# Altium footprint library Pwrlib.PcbLib: 21 footprints (part 1 of 2)
Each footprint in its own frame and in the unit in brackets; x right, y up, seen from the top. Pads: shape width x height; smd on the part's side, far side on the other; paste and mask are expansions set on the pad; w line width, h text height; cw(c..) or ccw(c..) is an arc to the next point about the centre after c.
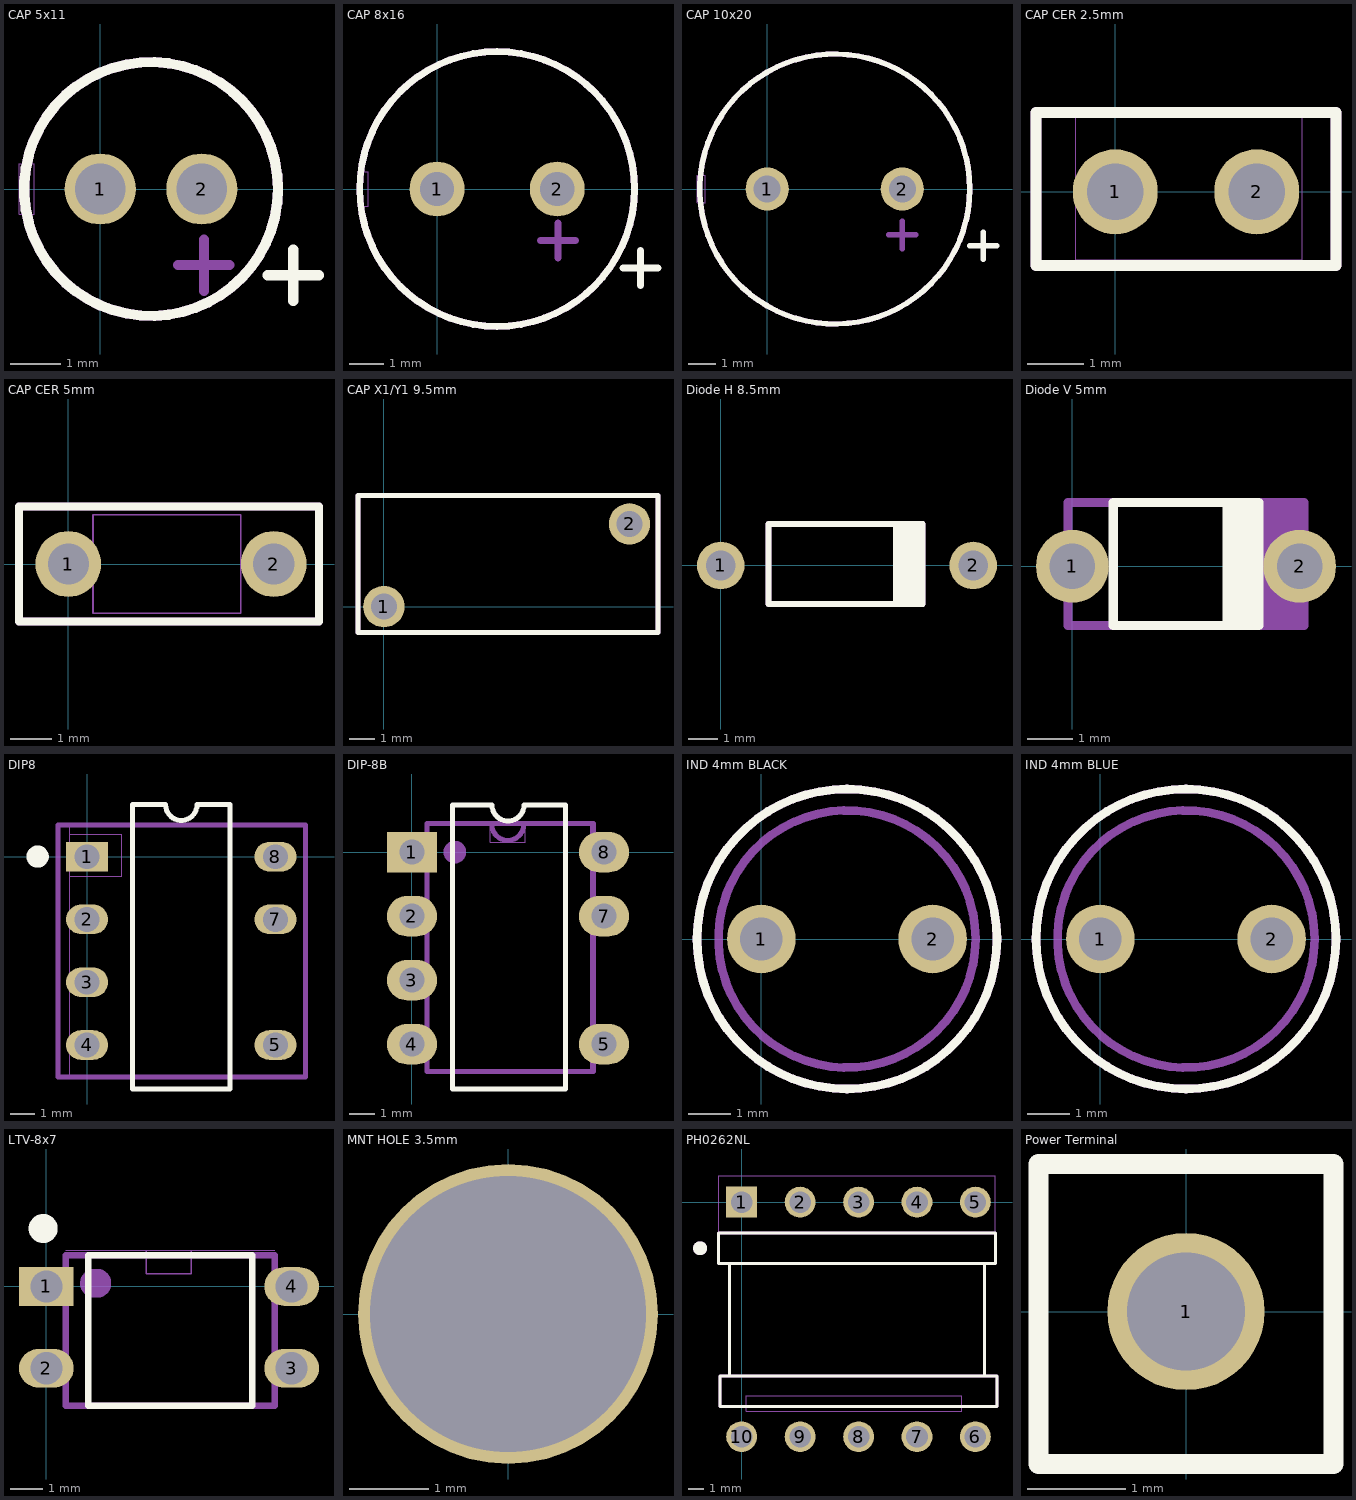
[diagram p0: the footprints below, top view; thin cyan lines are the x and y axes]

## CAP 5x11 [mm]
pads (2):
  round 1.4 hole 1: 1(0,0) 2(2,0)
Top Overlay:
  circle w0.2: c1,0 r2.5
  lines w0.2: 3.292,-1.7 4.308,-1.7 ; 3.8,-2.208 3.8,-1.192
Mechanical 1:
  circle w0: c1,0 r2.5
  circle w0.1: c0,0 r0.25
  circle w0.1: c2,0 r0.25
  lines w0: -1.6,-0.5 -1.3,-0.5 -1.3,0.5 -1.6,0.5 -1.6,-0.5
Assembly Draw:
  circle w0.2: c1,0 r2.5
  lines w0.2: 1.532,-1.5 2.548,-1.5 ; 2.04,-2.008 2.04,-0.992
  text "'.Designator'" at 0.2,-0.7 h1.5
3D body: height 11, standoff 0, extent -1.499,-2.499 3.499,2.499
3D body: height 10.99, standoff 0, extent -1.549,-0.5 -1.4,0.499
3D body: height 0, standoff -2, extent -0.249,-0.249 0.249,0.249
3D body: height 0, standoff -2, extent 1.751,-0.249 2.249,0.249

## CAP 8x16 [mm]
pads (2):
  round 1.6 hole 1: 1(0,0) 2(3.5,0)
Top Overlay:
  circle w0.2: c1.75,0 r4
  lines w0.2: 5.417,-2.3 6.433,-2.3 ; 5.925,-2.808 5.925,-1.792
Mechanical 1:
  circle w0: c3.5,0 r0.3
  circle w0: c0,0 r0.3
  circle w0: c1.75,0 r4
  lines w0: -2.3,-0.5 -2,-0.5 -2,0.5 -2.3,0.5 -2.3,-0.5
Assembly Draw:
  circle w0.2: c1.75,0 r4
  lines w0.2: 3.017,-1.5 4.033,-1.5 ; 3.525,-2.008 3.525,-0.992
  text "'.Designator'" at 0.5,-0.4 h1.5
3D body: height 0, standoff -2, extent 3.201,-0.299 3.799,0.299
3D body: height 0, standoff -2, extent -0.299,-0.299 0.299,0.299
3D body: height 15.99, standoff 0, extent -2.299,-0.499 -2.219,0.499
3D body: height 16, standoff 0, extent -2.249,-3.999 5.749,3.999

## CAP 10x20 [mm]
pads (2):
  round 1.6 hole 1: 1(0,0) 2(5,0)
Top Overlay:
  circle w0.2: c2.5,0 r5
  lines w0.2: 7.492,-2.1 8.508,-2.1 ; 8,-2.608 8,-1.592
Mechanical 1:
  circle w0: c5,0 r0.3
  circle w0: c0,0 r0.3
  circle w0: c2.5,0 r5
  lines w0: -2.6,-0.5 -2.3,-0.5 -2.3,0.5 -2.6,0.5 -2.6,-0.5
Assembly Draw:
  circle w0.2: c2.5,0 r5
  lines w0.2: 4.492,-1.7 5.508,-1.7 ; 5,-2.208 5,-1.192
  text "'.Designator'" at 1.5,-0.5 h1.5
3D body: height 0, standoff -2, extent 4.701,-0.299 5.299,0.299
3D body: height 0, standoff -2, extent -0.299,-0.299 0.299,0.299
3D body: height 19.99, standoff 0, extent -2.599,-0.499 -2.475,0.499
3D body: height 20, standoff 0, extent -2.499,-4.999 7.499,4.999

## CAP CER 2.5mm [mm]
pads (2):
  round 1.5 hole 1: 1(0,0) 2(2.5,0)
Top Overlay:
  lines w0.2: -1.4,-1.3 -1.4,1.4 3.9,1.4 3.9,-1.3 -1.4,-1.3
Mechanical 1:
  circle w0: c0,0 r0.25
  circle w0: c2.5,0 r0.25
  lines w0: -0.7,-1.2 -0.7,1.4 3.3,1.4 3.3,-1.2 -0.7,-1.2
Assembly Draw:
  lines w0.2: -1.4,-1.3 3.9,-1.3 3.9,1.4 -1.4,1.4 -1.4,-1.3
  text "'.Designator'" at -0.175,-0.725 h1.5
3D body: height 5.6, standoff 1.6, extent -0.7,-1.2 3.3,1.4
3D body: height 1.6, standoff 0, extent -0.249,-0.249 0.249,0.249
3D body: height 1.6, standoff 0, extent 2.251,-0.249 2.749,0.249

## CAP CER 5mm [mm]
pads (2):
  round 1.6 hole 1: 1(0,0) 2(5,0)
Top Overlay:
  lines w0.2: -1.2,-1.4 6.1,-1.4 6.1,1.4 -1.2,1.4 -1.2,-1.4
Mechanical 1:
  lines w0.04: 0.6,-1.2 0.6,1.2 4.2,1.2 4.2,-1.2 0.6,-1.2
Assembly Draw:
  lines w0.2: -1.2,-1.4 -1.2,1.4 6.1,1.4 6.1,-1.4 -1.2,-1.4
  text "'.Designator'" at 0.325,-0.825 h1.5
3D body: height 1.85, standoff 1.35, extent -0.2,-0.248 1.55,0.25
3D body: height 3.4, standoff 1.4, extent 1.302,-0.249 1.8,0.25
3D body: height 1.6, standoff -2, extent -0.248,-0.249 0.25,0.25
3D body: height 1.6, standoff -2, extent 4.75,-0.25 5.248,0.249
3D body: height 3.4, standoff 1.4, extent 3.2,-0.25 3.698,0.25
3D body: height 1.85, standoff 1.35, extent 3.45,-0.25 5.2,0.248
3D body: height 6.1, standoff 2.6, extent 0.701,-1.2 4.299,1.199

## CAP X1/Y1 9.5mm [mm]
pads (2):
  round 1.6 hole 1: 1(0,0) 2(9.5,3.2)
Top Overlay:
  lines w0.2: -1,-1 10.6,-1 10.6,4.3 -1,4.3 -1,-1
Mechanical 1:
  circle w0.1: c9.5,3.2 r0.4
  circle w0.1: c0,0 r0.4
Assembly Draw:
  lines w0.2: -1,-1 -1,4.3 10.6,4.3 10.6,-1 -1,-1
  text "'.Designator'" at 3.5,0.7 h1.5
3D body: height 7, standoff -2, extent 9.101,2.801 9.899,3.599
3D body: height 7, standoff -2, extent -0.399,-0.399 0.399,0.399
3D body: height 12.95, standoff 1.95, extent -0.7,-0.25 10.3,3.45

## Diode H 8.5mm [mm]
pads (2):
  round 1.6 hole 1: 1(0,0) 2(8.5,0)
Top Overlay:
  rectangle: 5.8,-1.3 6.8,1.4
  lines w0.2: 1.6,-1.3 6.8,-1.3 6.8,1.4 1.6,1.4 1.6,-1.3
Mechanical 1:
  circle w0.1: c8.5,0 r0.43
  circle w0.1: c0,0 r0.43
Assembly Draw:
  rectangle: 5.8,-1.3 6.8,1.4
  lines w0.2: 1.6,-1.3 1.6,1.4 6.8,1.4 6.8,-1.3 1.6,-1.3
  text "'.Designator'" at 2.175,-0.75 h1.5
3D body: height 1.6, standoff -2, extent 8.071,-0.429 8.93,0.43
3D body: height 1.6, standoff -2, extent -0.429,-0.429 0.429,0.429
3D body: height 1.78, standoff 0.92, extent 0,-0.427 5.2,0.43
3D body: height 1.78, standoff 0.92, extent 3.4,-0.428 8.6,0.428
3D body: height 2.7, standoff 0, extent 5.725,-1.3 6.675,1.389
3D body: height 2.7, standoff 0, extent 1.475,-1.3 5.725,1.389

## Diode V 5mm [mm]
pads (2):
  round 1.6 hole 1: 1(0,0) 2(5,0)
Top Overlay:
  rectangle: 3.3,-1.3 4.1,1.4
  lines w0.2: 0.9,-1.3 4.1,-1.3 4.1,1.4 0.9,1.4 0.9,-1.3
Assembly Draw:
  rectangle: 4.1,-1.3 5.1,1.4
  lines w0.2: -0.1,-1.3 -0.1,1.4 5.1,1.4 5.1,-1.3 -0.1,-1.3
  text "'.Designator'" at 0.275,-0.65 h1.5
3D body: height 8.25, standoff 2.7, extent -0.328,-0.425 5.228,0.433
3D body: height 8, standoff -2, extent -0.429,-0.426 0.429,0.43
3D body: height 3.2, standoff -2, extent 4.571,-0.43 5.429,0.427
3D body: height 5.2, standoff 4.25, extent -1.295,-1.3 1.4,1.389
3D body: height 4.25, standoff 0, extent -1.295,-1.3 1.4,1.389

## DIP8 [mm]
pads (7):
  rect 1.7x1.2 hole 1: 1(0,0)
  oval 1.7x1.2 hole 1: 2(0,-2.54) 3(0,-5.08) 4(0,-7.62) 5(7.62,-7.62) 7(7.62,-2.54) 8(7.62,0)
Top Overlay:
  circle w0.5: c-2,0 r0.2
  lines w0.2: 1.835,-9.4 5.785,-9.4 5.785,2.1 4.445,2.1 cw(c3.81,2.1) 3.175,2.1 1.835,2.1 1.835,-9.4
Mechanical 1:
  lines w0.04: -0.7,-8.91 -0.7,1.275 ; -0.7,-0.8 1.4,-0.8 1.4,0.9 -0.7,0.9
  lines w0.2: -1.175,-8.91 -1.175,1.275 8.825,1.275 8.825,-8.91 -1.175,-8.91
Assembly Draw:
  circle w0.5: c0,0 r0.2
  lines w0.2: -1.175,-8.91 8.825,-8.91 8.825,1.275 -1.175,1.275 -1.175,-8.91
  text "'.Designator'" at 1.8,-4.225 h1.5
3D body: height 4.3, standoff 0, extent -1.174,-8.909 8.824,1.274
3D body: height 1.5, standoff -2, extent -0.099,-7.919 0.1,-7.32
3D body: height 1.5, standoff -2, extent -0.099,-5.379 0.1,-4.78
3D body: height 1.5, standoff -2, extent -0.099,-2.839 0.1,-2.24
3D body: height 1.5, standoff -2, extent -0.099,-0.299 0.1,0.3
3D body: height 1.5, standoff -2, extent 7.521,-7.919 7.72,-7.32
3D body: height 1.5, standoff -2, extent 7.521,-2.839 7.72,-2.24
3D body: height 1.5, standoff -2, extent 7.521,-0.299 7.72,0.3
3D body: height 4.7, standoff 0, extent -1.174,-8.909 -0.701,1.274
3D body: height 4.7, standoff 0, extent 8.325,-8.91 8.824,1.274
3D body: height 1.5, standoff -2, extent 7.521,-5.379 7.72,-4.78
3D body: height 4.31, standoff 0, extent -0.699,-0.799 1.399,0.899
3D body: height 4.31, standoff 0, extent -0.699,-3.339 1.399,-1.641
3D body: height 4.31, standoff 0, extent -0.699,-5.879 1.399,-4.181
3D body: height 4.31, standoff 0, extent -0.699,-8.419 1.399,-6.721
3D body: height 4.31, standoff 0, extent 6.221,-0.899 8.319,0.799
3D body: height 4.31, standoff 0, extent 6.221,-3.439 8.319,-1.741
3D body: height 4.31, standoff 0, extent 6.221,-5.979 8.319,-4.281
3D body: height 4.31, standoff 0, extent 6.221,-8.519 8.319,-6.821

## DIP-8B [mm]
pads (7):
  rect 2x1.6 hole 1: 1(0,0)
  oval 2x1.6 hole 1: 2(0,-2.54) 3(0,-5.08) 4(0,-7.62) 5(7.62,-7.62) 7(7.62,-2.54) 8(7.62,0)
Top Overlay:
  lines w0.2: 1.6,-9.4 1.6,1.87 3.175,1.87 ccw(c3.81,1.87) 4.445,1.87 6.1,1.87 6.1,-9.4 1.6,-9.4
Mechanical 1:
  lines w0: 0.6,-7.92 -0.1,-7.92 ; 0.6,-7.32 -0.1,-7.32 ; -0.1,-7.92 -0.1,-7.32 ; -0.1,-7.92 0.1,-7.92 0.1,-7.32 -0.1,-7.32 ; -0.1,-5.38 0.6,-5.38 -0.1,-5.38 ; -0.1,-5.38 -0.1,-4.78 ; -0.1,-5.38 0.1,-5.38 ; -0.1,-5.38 0.1,-5.38 ; -0.1,-5.38 -0.1,-4.78 ; -0.1,-4.78 0.6,-4.78 -0.1,-4.78 ; -0.1,-4.78 0.1,-4.78 ; -0.1,-4.78 0.1,-4.78 ; -0.1,-2.84 0.6,-2.84 -0.1,-2.84 ; -0.1,-2.84 -0.1,-2.24 ; -0.1,-2.84 0.1,-2.84 ; -0.1,-2.84 0.1,-2.84 ; -0.1,-2.84 -0.1,-2.24 ; -0.1,-2.24 0.6,-2.24 -0.1,-2.24 ; -0.1,-2.24 0.1,-2.24 ; -0.1,-2.24 0.1,-2.24 ; -0.1,-0.3 0.1,-0.3 ; -0.1,-0.3 -0.1,0.3 ; -0.1,-0.3 0.6,-0.3 -0.1,-0.3 ; -0.1,-0.3 0.1,-0.3 ; -0.1,-0.3 -0.1,0.3 ; -0.1,0.3 0.1,0.3 ; -0.1,0.3 0.6,0.3 -0.1,0.3 ; -0.1,0.3 0.1,0.3 ; 0.1,-5.38 0.1,-4.78 ; 0.1,-5.38 0.1,-4.78 ; 0.1,-2.84 0.1,-2.24 ; 0.1,-2.84 0.1,-2.24 ; 0.1,-0.3 0.1,0.3 ; 0.1,-0.3 0.1,0.3 ; 7.52,-7.92 7.52,-7.32 ; 7.52,-7.92 7.72,-7.92 ; 7.52,-7.92 7.72,-7.92 ; 7.52,-7.92 7.52,-7.32 ; 7.52,-7.32 7.72,-7.32 ; 7.52,-7.32 7.72,-7.32 ; 7.52,-2.84 7.52,-2.24 ; 7.52,-2.84 7.72,-2.84 ; 7.52,-2.84 7.72,-2.84 ; 7.52,-2.84 7.52,-2.24 ; 7.52,-2.24 7.72,-2.24 ; 7.52,-2.24 7.72,-2.24 ; 7.52,-0.3 7.52,0.3 ; 7.52,-0.3 7.72,-0.3 ; 7.52,-0.3 7.72,-0.3 ; 7.52,-0.3 7.52,0.3 ; 7.52,0.3 7.72,0.3 ; 7.52,0.3 7.72,0.3 ; 7.72,-7.92 7.02,-7.92 7.72,-7.92 ; 7.72,-7.92 7.72,-7.32 ; 7.72,-7.92 7.72,-7.32 ; 7.72,-7.32 7.02,-7.32 7.72,-7.32 ; 7.72,-2.84 7.02,-2.84 7.72,-2.84 ; 7.72,-2.84 7.72,-2.24 ; 7.72,-2.84 7.72,-2.24 ; 7.72,-2.24 7.02,-2.24 7.72,-2.24 ; 7.72,-0.3 7.02,-0.3 7.72,-0.3 ; 7.72,-0.3 7.72,0.3 ; 7.72,-0.3 7.72,0.3 ; 7.72,0.3 7.02,0.3 7.72,0.3 ; 0.6,-8.7 7.1,-8.7 7.1,1.13 0.6,1.13 0.6,-8.7
  lines w0.04: 3.1,1.13 3.1,0.4 4.5,0.4 4.5,1.13
Assembly Draw:
  circle w0.5: c1.7,0 r0.2
  lines w0.2: 3.165,1.1 ccw(c3.8,1.1) 4.435,1.1 ; 0.6,-8.7 0.6,1.13 7.2,1.13 7.2,-8.7 0.6,-8.7
  text "'.Designator'" at 1.6,-4.725 h1.5
3D body: height 3, standoff 0, extent 0.601,-8.699 7.1,1.13
3D body: height 1.5, standoff -2, extent -0.099,-7.919 0.099,-7.321
3D body: height 3.68, standoff 3, extent 0.601,-8.699 7.099,1.129
3D body: height 1.5, standoff 1.3, extent 0.101,-7.919 0.599,-7.321
3D body: height 1.5, standoff 1.3, extent 0.101,-5.379 0.599,-4.781
3D body: height 1.5, standoff -2, extent -0.099,-5.379 0.099,-4.781
3D body: height 1.5, standoff 1.3, extent 0.101,-2.839 0.599,-2.241
3D body: height 1.5, standoff -2, extent -0.099,-2.839 0.099,-2.241
3D body: height 1.5, standoff 1.3, extent 0.101,-0.299 0.599,0.299
3D body: height 1.5, standoff -2, extent -0.099,-0.299 0.099,0.299
3D body: height 1.5, standoff 1.3, extent 7.021,-7.919 7.519,-7.321
3D body: height 1.5, standoff -2, extent 7.521,-7.919 7.719,-7.321
3D body: height 1.5, standoff 1.3, extent 7.021,-2.839 7.519,-2.241
3D body: height 1.5, standoff -2, extent 7.521,-2.839 7.719,-2.241
3D body: height 1.5, standoff 1.3, extent 7.021,-0.299 7.519,0.299
3D body: height 1.5, standoff -2, extent 7.521,-0.299 7.719,0.299

## IND 4mm BLACK [mm]
pads (2):
  round 1.6 hole 1: 1(0,0) 2(4,0)
Top Overlay:
  circle w0.2: c2,0 r3.5
Mechanical 1:
  circle w0.2: c2,0 r3
  circle w0.1: c0,0 r0.3
  circle w0.1: c4,0 r0.3
Assembly Draw:
  circle w0.2: c2,0 r3.5
  circle w0.2: c2,0 r3.5
  text "'.Designator'" at 0.675,-0.675 h1.5
3D body: height 1, standoff 0, extent -1.499,-3.499 5.499,3.499
3D body: height 5, standoff 1, extent -0.999,-2.999 4.999,2.999
3D body: height 6, standoff 5, extent -1.499,-3.499 5.499,3.499
3D body: height 0, standoff -2, extent -0.299,-0.299 0.299,0.299
3D body: height 0, standoff -2, extent 3.701,-0.299 4.299,0.299

## IND 4mm BLUE [mm]
pads (2):
  round 1.6 hole 1: 1(0,0) 2(4,0)
Top Overlay:
  circle w0.2: c2,0 r3.5
Mechanical 1:
  circle w0.2: c2,0 r3
  circle w0.1: c0,0 r0.3
  circle w0.1: c4,0 r0.3
Assembly Draw:
  circle w0.2: c2,0 r3.5
  circle w0.2: c2,0 r3.5
  text "'.Designator'" at 0.875,-0.775 h1.5
3D body: height 1, standoff 0, extent -1.499,-3.499 5.499,3.499
3D body: height 5, standoff 1, extent -0.999,-2.999 4.999,2.999
3D body: height 6, standoff 5, extent -1.499,-3.499 5.499,3.499
3D body: height 0, standoff -2, extent -0.299,-0.299 0.299,0.299
3D body: height 0, standoff -2, extent 3.701,-0.299 4.299,0.299

## LTV-8x7 [mm]
pads (4):
  rect 1.7x1.2 hole 1: 1(0,0)
  oval 1.7x1.2 hole 1: 2(0,-2.54) 3(7.62,-2.54) 4(7.62,0)
Top Overlay:
  circle w0.5: c-0.1,1.8 r0.2
  lines w0.2: 1.3,-3.71 1.3,0.97 6.4,0.97 6.4,-3.71 1.3,-3.71
Mechanical 1:
  circle w0.5: c1.5,0.1 r0.2
  lines w0: 0.6,1.13 7.1,1.13 ; -0.1,-2.84 0.6,-2.84 -0.1,-2.84 ; -0.1,-2.84 -0.1,-2.24 ; -0.1,-2.84 0.1,-2.84 ; -0.1,-2.84 0.1,-2.84 ; -0.1,-2.84 -0.1,-2.24 ; -0.1,-2.24 0.6,-2.24 -0.1,-2.24 ; -0.1,-2.24 0.1,-2.24 ; -0.1,-2.24 0.1,-2.24 ; -0.1,-0.3 0.6,-0.3 -0.1,-0.3 ; -0.1,-0.3 -0.1,0.3 ; -0.1,-0.3 0.1,-0.3 ; -0.1,-0.3 -0.1,0.3 ; -0.1,-0.3 0.1,-0.3 ; -0.1,0.3 0.6,0.3 -0.1,0.3 ; -0.1,0.3 0.1,0.3 ; -0.1,0.3 0.1,0.3 ; 0.1,-2.84 0.1,-2.24 ; 0.1,-2.84 0.1,-2.24 ; 0.1,-0.3 0.1,0.3 ; 0.1,-0.3 0.1,0.3 ; 7.52,-2.84 7.52,-2.24 ; 7.52,-2.84 7.72,-2.84 ; 7.52,-2.84 7.72,-2.84 ; 7.52,-2.84 7.52,-2.24 ; 7.52,-2.24 7.72,-2.24 ; 7.52,-2.24 7.72,-2.24 ; 7.52,-0.3 7.52,0.3 ; 7.52,-0.3 7.72,-0.3 ; 7.52,-0.3 7.72,-0.3 ; 7.52,-0.3 7.52,0.3 ; 7.52,0.3 7.72,0.3 ; 7.52,0.3 7.72,0.3 ; 7.72,-2.84 7.02,-2.84 7.72,-2.84 ; 7.72,-2.84 7.72,-2.24 ; 7.72,-2.84 7.72,-2.24 ; 7.72,-2.24 7.02,-2.24 7.72,-2.24 ; 7.72,-0.3 7.02,-0.3 7.72,-0.3 ; 7.72,-0.3 7.72,0.3 ; 7.72,-0.3 7.72,0.3 ; 7.72,0.3 7.02,0.3 7.72,0.3
  lines w0.04: 3.1,1.13 3.1,0.4 4.5,0.4 4.5,1.13
Assembly Draw:
  circle w0.5: c1.565,0.1 r0.2
  lines w0.2: 7.065,-3.71 0.6,-3.71 0.6,0.97 7.1,0.97 7.1,-3.71
  text "'.Designator'" at 1.975,-2.125 h1.5
3D body: height 3.68, standoff 0, extent 1.366,-0.099 1.764,0.299
3D body: height 1.5, standoff -2, extent 7.521,-0.299 7.72,0.3
3D body: height 1.5, standoff 1.3, extent 7.021,-0.299 7.52,0.3
3D body: height 1.5, standoff -2, extent 7.521,-2.839 7.72,-2.24
3D body: height 1.5, standoff 1.3, extent 7.021,-2.839 7.52,-2.24
3D body: height 1.5, standoff -2, extent -0.099,-0.299 0.1,0.3
3D body: height 1.5, standoff 1.3, extent 0.101,-0.299 0.6,0.3
3D body: height 1.5, standoff -2, extent -0.099,-2.839 0.1,-2.24
3D body: height 1.5, standoff 1.3, extent 0.101,-2.839 0.6,-2.24
3D body: height 3.68, standoff 3, extent 0.601,-3.7 7.105,1.13
3D body: height 3, standoff 0, extent 0.601,-3.7 7.1,1.13

## MNT HOLE 3.5mm [mm]
pads (1):
  round 3.8 hole 3.5: ""(0,0)

## PH0262NL [mm]
pads (10):
  rect 2x2 hole 1.4: 1(0,0)
  round 2 hole 1.4: 2(3.8,0) 3(7.6,0) 4(11.4,0) 5(15.2,0) 6(15.2,-15.25) 7(11.4,-15.25) 8(7.6,-15.25) 9(3.8,-15.25) 10(0,-15.25)
Top Overlay:
  circle w0.5: c-2.7,-3 r0.2
  lines w0.2: -0.8,-11.2 -0.8,-4 ; 15.8,-11.3 15.8,-4 ; -1.5,-4 -1.5,-2 16.5,-2 16.5,-4 -1.5,-4 ; -1.4,-13.3 16.6,-13.3 16.6,-11.3 -1.4,-11.3 -1.4,-13.3
Mechanical 1:
  circle w0.1: c0,0 r0.6
  circle w0.1: c3.8,0 r0.6
  circle w0.1: c7.6,0 r0.6
  circle w0.1: c11.4,0 r0.6
  circle w0.1: c15.2,0 r0.6
  circle w0.1: c15.2,-15.3 r0.6
  circle w0.1: c11.4,-15.3 r0.6
  circle w0.1: c7.6,-15.3 r0.6
  circle w0.1: c3.8,-15.3 r0.6
  circle w0.1: c0,-15.3 r0.6
  lines w0.04: 0.3,-13.6 0.3,-12.6 14.3,-12.6 14.3,-13.6 ; 0.3,-13.6 0.3,-13.6 ; 0.3,-13.6 14.3,-13.6 ; 14.3,-13.6 14.3,-13.6 ; -1.5,-2 -1.5,1.7 16.5,1.7 16.5,-2 -1.5,-2
Assembly Draw:
  circle w0.5: c-2.7,-3 r0.2
  lines w0.2: -0.8,-11.2 -0.8,-4 ; 15.8,-11.3 15.8,-4 ; -1.5,-4 16.5,-4 16.5,-2 -1.5,-2 -1.5,-4 ; -1.4,-13.3 -1.4,-11.3 16.6,-11.3 16.6,-13.3 -1.4,-13.3
  text "'.Designator'" at 4.825,-7.775 h1.5
3D body: height 0, standoff -2, extent -0.599,-0.599 0.599,0.599
3D body: height 0, standoff -2, extent 3.201,-0.599 4.4,0.6
3D body: height 0, standoff -2, extent 7.001,-0.599 8.2,0.6
3D body: height 0, standoff -2, extent 10.801,-0.599 12,0.6
3D body: height 0, standoff -2, extent 14.601,-0.599 15.8,0.6
3D body: height 0, standoff -2, extent 14.601,-15.899 15.8,-14.7
3D body: height 0, standoff -2, extent 10.801,-15.899 12,-14.7
3D body: height 0, standoff -2, extent 7.001,-15.899 8.2,-14.7
3D body: height 0, standoff -2, extent 3.201,-15.899 4.4,-14.7
3D body: height 0, standoff -2, extent -0.599,-15.899 0.6,-14.7
3D body: height 5, standoff 0, extent -1.499,-1.999 16.499,1.699
3D body: height 5, standoff 0, extent -1.499,-17.299 16.5,-13.6
3D body: height 9, standoff 5, extent -1.52,-17.299 16.52,1.72
3D body: height 14, standoff 0, extent 0.3,-12.6 14.3,-2.6
3D body: height 14, standoff 5, extent 0.301,-13.599 14.3,-12.601
3D body: height 14, standoff 5, extent 0.301,-2.599 14.3,-1.6

## Power Terminal [mm]
pads (1):
  round 1.6 hole 1.2: 1(0,0)
Top Overlay:
  lines w0.2: -1.5,-1.55 -1.5,1.5 1.5,1.5 1.5,-1.55 -1.5,-1.55